# Altium footprint library Generic components.PcbLib: 18 footprints (part 1 of 2)
Each footprint in its own frame and in the unit in brackets; x right, y up, seen from the top. Pads: shape width x height; smd on the part's side, far side on the other; paste and mask are expansions set on the pad; w line width, h text height; cw(c..) or ccw(c..) is an arc to the next point about the centre after c.
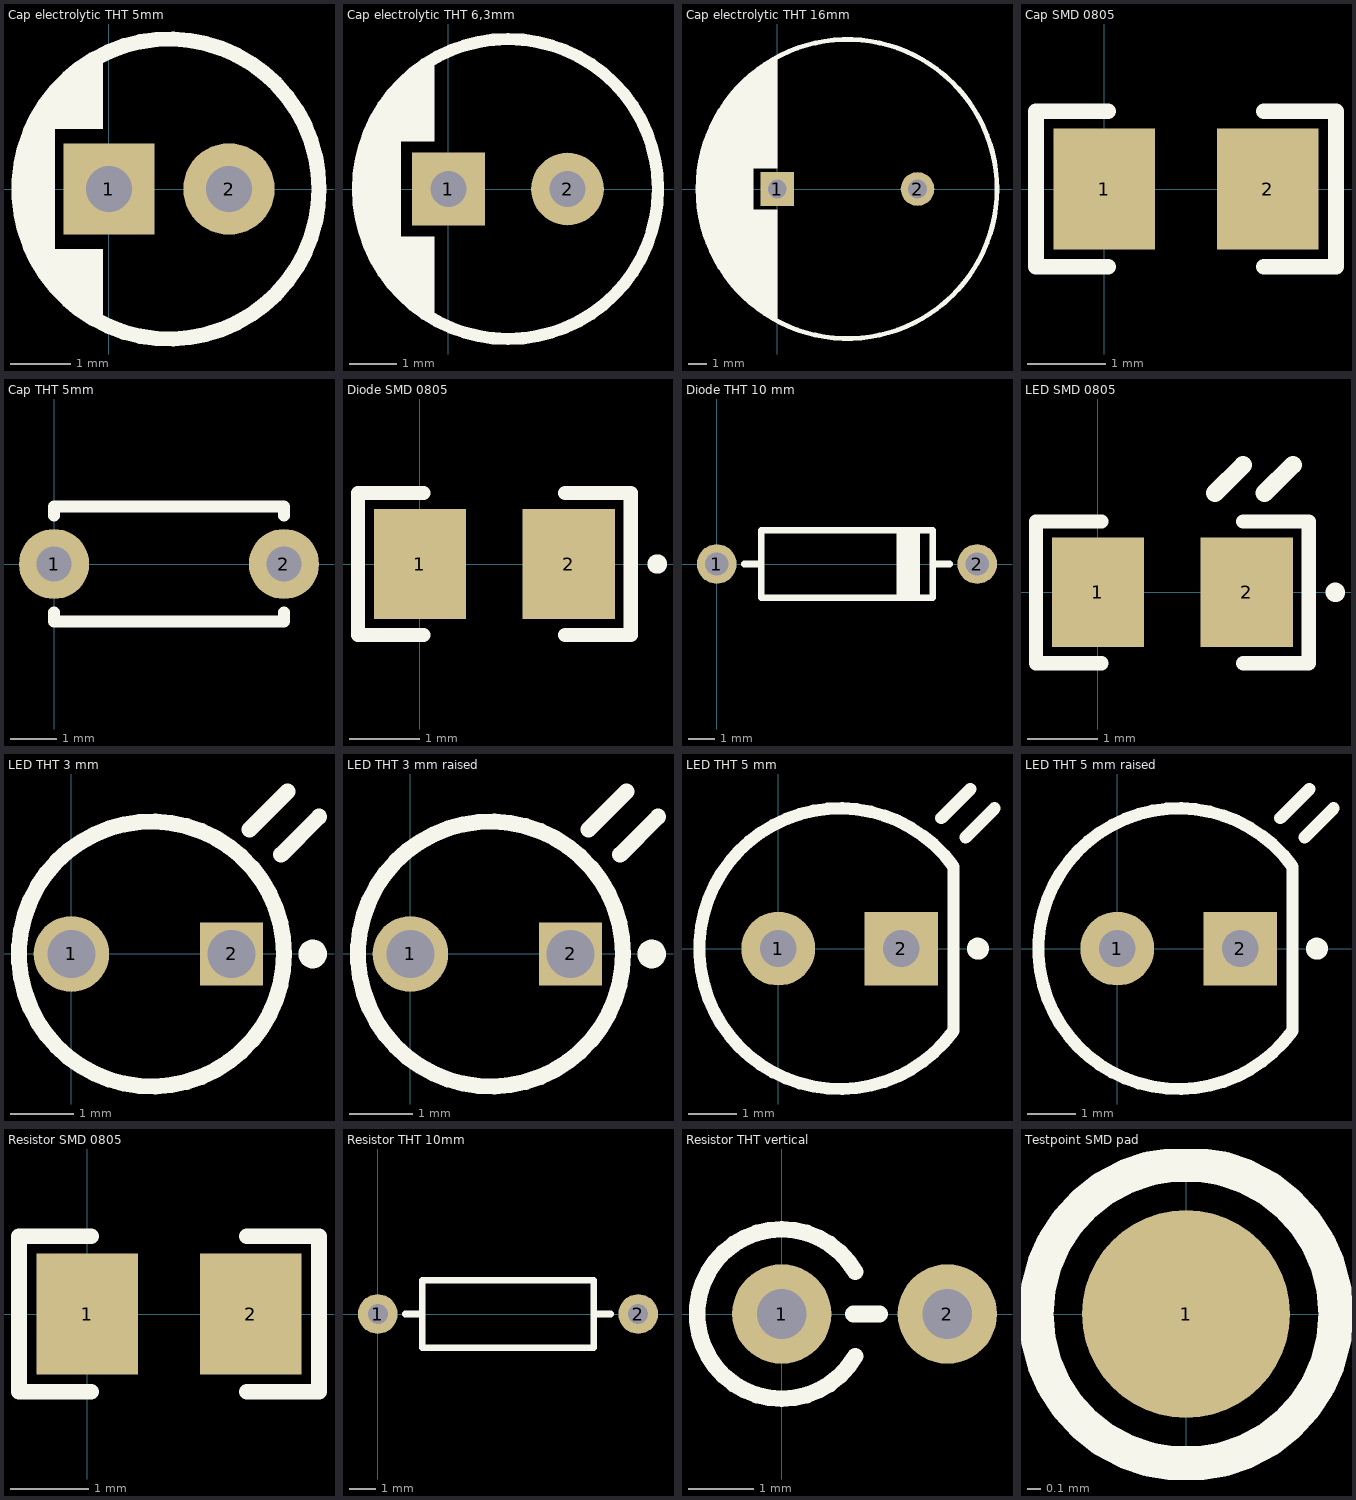
[diagram p0: the footprints below, top view; thin cyan lines are the x and y axes]

## Cap electrolytic THT 5mm [mil] "THT electrolytic capacitor 5 mm diameter"
pads (2):
  rect 60x60 hole 30: 1(0,0)
  round 60 hole 30: 2(78.74,0)
Top Overlay:
  circle w10: c39.37,0 r98.43
  region: -35.43,39.37 -35.43,-39.37 -51.18,-39.37 -59.06,-31.5 -59.06,23.62 -51.18,39.37
  region: -3.94,-86.61 -3.94,-39.37 -51.18,-39.37 -43.31,-55.12 -35.43,-66.93
  region: -3.94,86.61 -3.94,39.37 -51.18,39.37 -43.31,55.12 -35.43,66.93
3D body "Aluminum_electrolytic_capacitor_radial_D5_H9_PinD0.5_Pitch2_nominal_black.step": height 354.33, standoff -118.11, extent -58.68,-98.1 137.5,98.1

## Cap electrolytic THT 6,3mm [mil] "THT electrolytic capacitor 6,3 mm diameter"
pads (2):
  rect 60x60 hole 30: 1(0,0)
  round 60 hole 30: 2(98.43,0)
Top Overlay:
  circle w10: c49.21,0 r124.02
  region: -39.37,39.37 -39.37,-39.37 -66.93,-39.37 -74.8,-31.5 -74.8,31.5 -66.93,39.37
  region: -11.81,-106.3 -11.81,-39.37 -66.93,-39.37 -66.93,-51.18 -31.5,-94.49
  region: -11.81,106.3 -11.81,39.37 -66.93,39.37 -66.93,51.18 -31.5,94.49
3D body "Aluminum_electrolytic_capacitor_radial_D6.3_H11_PinD0.5_Pitch2.5_nominal_black.step": height 433.07, standoff -118.11, extent -74.33,-123.72 172.76,123.72

## Cap electrolytic THT 16mm [mm]
pads (2):
  rect 1.8x1.8 hole 1: 1(0,0)
  round 1.8 hole 1: 2(7.5,0)
Top Overlay:
  circle w0.254: c3.75,0 r8
  region: -1.3,1.1 -1.3,-1.1 -4.2,-1.1 -4.3,0 -4.2,1.1
  region: 0,-1.1 -4.2,-1.1 -3.9,-2.4 -3.3,-3.8 -2.1,-5.4 -0.3,-6.9 0,-7.1
  region: 0,1.1 -4.2,1.1 -3.9,2.4 -3.3,3.8 -2.1,5.4 -0.3,6.9 0,7.1
3D body "Aluminum_electrolytic_capacitor_radial_D16_H31.5_PinD0.8_Pitch7.5_nominal_black.step": height 31.5, standoff -3, extent -4.239,-7.994 11.738,7.994

## Cap SMD 0805 [mm] "SMD non polarised 0805 capacitor"
height 0.7
pads (2):
  rect 1.3x1.55 smd: 1(0,0) 2(2.1,0)
Top Overlay:
  lines w0.2: 0.05,-1 -0.65,-1 -0.875,-1 -0.875,1 -0.65,1 0.05,1 ; 2.05,-1 2.75,-1 2.975,-1 2.975,1 2.75,1 2.05,1
3D body: height 0.7, standoff 0, extent 1.9,-0.725 2.2,0.725
3D body: height 0.7, standoff 0, extent -0.1,-0.725 0.2,0.725
3D body: height 0.7, standoff 0, extent 0.2,-0.725 1.9,0.725

## Cap THT 5mm [mil] "THT ceramic capacitor 5 mm pitch"
pads (2):
  round 60 hole 30: 1(0,0) 2(196.85,0)
Top Overlay:
  lines w10: 0,-41.34 0,-49.21 196.85,-49.21 196.85,-41.34 ; 0,41.34 0,49.21 196.85,49.21 196.85,41.34
3D body "CAP_DISC_4x3_YL-LM.stp": height 196.63, standoff -118.11, extent -11.35,-59.06 208.2,59.06

## Diode SMD 0805 [mm] "SMD diode 0805 package"
height 0.7
pads (2):
  rect 1.3x1.55 smd: 1(0,0) 2(2.1,0)
Top Overlay:
  circle w0.254: c3.35,0 r0.01
  lines w0.2: 0.05,-1 -0.65,-1 -0.875,-1 -0.875,1 -0.65,1 0.05,1 ; 2.05,-1 2.75,-1 2.975,-1 2.975,1 2.75,1 2.05,1
3D body "microMELF-RED.stp": height 1.2, standoff 0, extent 0.1,-0.596 2.1,0.596

## Diode THT 10 mm [mil] "THT axial diode 10 mm pitch"
pads (2):
  round 60 hole 35.43: 1(0,0) 2(393.7,0)
Top Overlay:
  rectangle: 271.65,-51.18 307.09,51.18
  lines w10: 41.37,0 66.93,0 ; 326.77,0 352.33,0 ; 66.93,-51.18 66.93,51.18 326.77,51.18 326.77,-51.18 66.93,-51.18
3D body "DO-41-glass_horizontal_pitch_10.16.step": height 107.09, standoff -123.62, extent -20.75,-53.15 410.75,53.15

## LED SMD 0805 [mm] "SMD LED diode 0805 package"
height 0.7
pads (2):
  rect 1.3x1.55 smd: 1(0,0) 2(2.1,0)
Top Overlay:
  circle w0.254: c3.35,0 r0.01
  lines w0.2: 0.05,-1 -0.65,-1 -0.875,-1 -0.875,1 -0.65,1 0.05,1 ; 2.05,-1 2.75,-1 2.975,-1 2.975,1 2.75,1 2.05,1
  lines w0.254: 1.65,1.4 2.05,1.8 ; 2.35,1.4 2.75,1.8
3D body "LED-0805-glass.step": height 0.8, standoff -0.01, extent 0.05,-0.625 2.05,0.625

## LED THT 3 mm [mm] "THT LED diode 3 mm diameter"
pads (2):
  round 1.2 hole 0.762: 1(0,0)
  rect 1x1 hole 0.762: 2(2.54,0)
Top Overlay:
  circle w0.254: c3.825,0 r0.1
  circle w0.254: c1.27,0 r2.1
  lines w0.254: 2.825,1.975 3.425,2.575 ; 3.325,1.575 3.925,2.175
3D body "LED 3mm Red.step": height 5.4, standoff -7.2, extent -0.643,-1.915 2.92,1.915

## LED THT 3 mm raised [mm] "THT LED diode 3 mm diameter"
pads (2):
  round 1.2 hole 0.762: 1(0,0)
  rect 1x1 hole 0.762: 2(2.54,0)
Top Overlay:
  circle w0.254: c3.825,0 r0.1
  circle w0.254: c1.27,0 r2.1
  lines w0.254: 2.825,1.975 3.425,2.575 ; 3.325,1.575 3.925,2.175
3D body "LED 3mm Red.step": height 10.83, standoff -1.77, extent -0.643,-1.915 2.92,1.915

## LED THT 5 mm [mil] "THT LED diode 5 mm diameter"
pads (2):
  round 60 hole 30: 1(0,0)
  rect 60x60 hole 30: 2(100,0)
Top Overlay:
  circle w10: c162.4,0 r3.94
  lines w10: 142.16,-67.39 cw(c50,0) 142.16,67.39 ; 142.52,-66.93 142.52,66.93 ; 152.36,90.55 175.98,114.17 ; 156.3,129.92 132.68,106.3 ; 132.68,106.3 132.68,106.3
3D body "LED_D5.0mm_RED.step": height 342.52, standoff -236.22, extent -66.14,-115.87 146.46,115.87

## LED THT 5 mm raised [mil] "THT LED diode 5 mm diameter raised for panel mounting"
pads (2):
  round 60 hole 30: 1(0,0)
  rect 60x60 hole 30: 2(100,0)
Top Overlay:
  circle w10: c162.4,0 r3.94
  lines w10: 142.16,-67.39 cw(c50,0) 142.16,67.39 ; 142.52,-66.93 142.52,66.93 ; 152.36,90.55 175.98,114.17 ; 156.3,129.92 132.68,106.3 ; 132.68,106.3 132.68,106.3
3D body "LED_D5.0mm_RED.step": height 559.05, standoff -19.68, extent -66.14,-115.87 146.46,115.87

## Resistor SMD 0805 [mm] "SMD resistor 0805 package"
height 0.7
pads (2):
  rect 1.3x1.55 smd: 1(0,0) 2(2.1,0)
Top Overlay:
  lines w0.2: 0.05,-1 -0.65,-1 -0.875,-1 -0.875,1 -0.65,1 0.05,1 ; 2.05,-1 2.75,-1 2.975,-1 2.975,1 2.75,1 2.05,1
3D body: height 0.7, standoff 0, extent 1.9,-0.725 2.2,0.725
3D body: height 0.7, standoff 0, extent -0.1,-0.725 0.2,0.725
3D body: height 0.7, standoff 0, extent 0.2,-0.725 1.9,0.725

## Resistor THT 10mm [mil] "THT axial resistor 10 mm pitch"
pads (2):
  round 60 hole 30: 1(0,0) 2(393.7,0)
Top Overlay:
  lines w10: 41.37,0 66.93,0 ; 326.77,0 352.33,0 ; 66.93,-51.18 326.77,-51.18 326.77,51.18 66.93,51.18 66.93,-51.18
3D body "Resistor Axial 0.5W - Pitch 10.2mm (401.57mil) - 10K.STEP": height 122.05, standoff -143.7, extent -13.78,-59.06 407.48,59.06

## Resistor THT vertical [mil] "THT axial resistor 10 mm pitch"
pads (2):
  round 60 hole 30: 1(0,0) 2(100,0)
Top Overlay:
  lines w10: 43.31,0 59.06,0 ; 44.32,-25.59 cw(c0,0) 44.32,25.59
3D body "R_0,5W_VERT__D2,5__L6,8__Pitch-2,54__Spacing-2.stp": height 405.51, standoff -181.1, extent -49.21,-49.21 111.81,49.04

## Testpoint SMD pad [mil]
pads (1):
  round 60 smd: 1(0,0)
Top Overlay:
  circle w10: c0,0 r43.31